# EAGLE library part IRF7905PBF (library NEON-BLADE-2023)
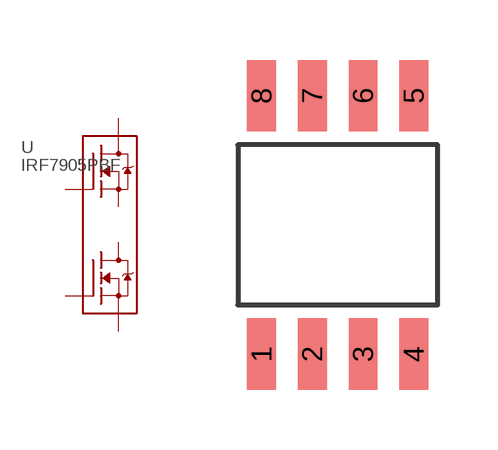
[diagram p31: symbol with the pads of SO8; footprint SO8]

Designator prefix -

## IRF7905PBF  [SO8]
1  S2  pas
2  G2  pas
3  S1  pas
4  G1  pas
5  D1  pas
6  D1  pas
7  D2  pas
8  D2  pas

## Footprint SO8 (pad centres in mm)
smd 0.72 x 1.78: 1 -1.905,-3.23; 2 -0.635,-3.23; 3 0.635,-3.23; 4 1.905,-3.23; 5 1.905,3.23; 6 0.635,3.23; 7 -0.635,3.23; 8 -1.905,3.23